# Altium schematic symbol library 18m_Resistor_ERJ-8BWFR018V.SchLib: 1 symbol
Pins are listed as number, name and electrical type; pins without a type are passive.

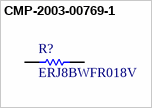
[diagram p0: symbol CMP-2003-00769-1]

## CMP-2003-00769-1
designator R?, comment ERJ8BWFR018V
Manufacturer: Panasonic; Part Number: ERJ8BWFR018V
footprint RESC3216X70X50NL05T20 (Chip Resistor, 2-Leads, Body 3.20x1.60mm, IPC Medium Density)
footprint RESC3216X70X50LL05T20 (Chip Resistor, 2-Leads, Body 3.20x1.60mm, IPC High Density)
pins: 1, 2
1 alternate drawing of the same symbol